# EAGLE library part 1365-68 (library EW_Connectors)
DUAL ROW STRAIGHT HEADER 1364 SERIES. 1.27mm x 1.27mm. Without Fixing Post. SMT Source: http://www.leotronics.co.uk/Conexcon/Data%20Sheets/sec.%20A/1364ing.pdf
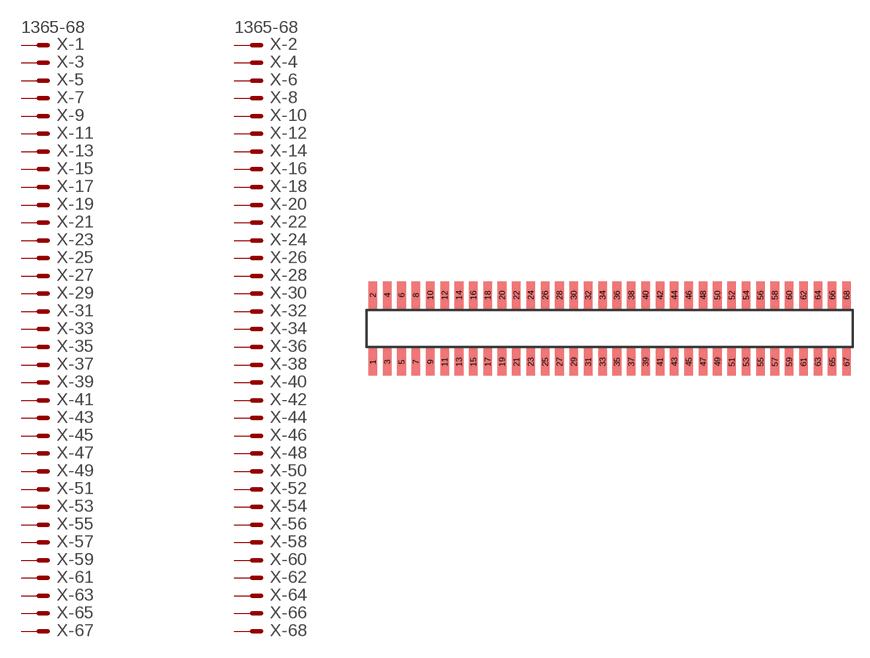
[diagram p97: symbol with the pads of 1365-68; footprint 1365-68]

Designator prefix X; gates -1=MVAL-14 -2=MVAL-14 -3=M-21 -4=M-21 -5=M-21 -6=M-21 -7=M-21 -8=M-21 -9=M-21 -10=M-21 -11=M-21 -12=M-21 -13=M-21 -14=M-21 -15=M-21 -16=M-21 -17=M-21 -18=M-21 -19=M-21 -20=M-21 -21=M-21 -22=M-21 -23=M-21 -24=M-21 -25=M-21 -26=M-21 -27=M-21 -28=M-21 -29=M-21 -30=M-21 -31=M-21 -32=M-21 -33=M-21 -34=M-21 -35=M-21 -36=M-21 -37=M-21 -38=M-21 -39=M-21 -40=M-21 -41=M-21 -42=M-21 -43=M-21 -44=M-21 -45=M-21 -46=M-21 -47=M-21 -48=M-21 -49=M-21 -50=M-21 -51=M-21 -52=M-21 -53=M-21 -54=M-21 -55=M-21 -56=M-21 -57=M-21 -58=M-21 -59=M-21 -60=M-21 -61=M-21 -62=M-21 -63=M-21 -64=M-21 -65=M-21 -66=M-21 -67=M-21 -68=M-21

## 1365-68 (OC_FARNELL: unknown; OC_NEWARK: unknown)  [1365-68]
1  -1:S  pas
2  -2:S  pas
3  -3:S  pas
4  -4:S  pas
5  -5:S  pas
6  -6:S  pas
7  -7:S  pas
8  -8:S  pas
9  -9:S  pas
10  -10:S  pas
11  -11:S  pas
12  -12:S  pas
13  -13:S  pas
14  -14:S  pas
15  -15:S  pas
16  -16:S  pas
17  -17:S  pas
18  -18:S  pas
19  -19:S  pas
20  -20:S  pas
21  -21:S  pas
22  -22:S  pas
23  -23:S  pas
24  -24:S  pas
25  -25:S  pas
26  -26:S  pas
27  -27:S  pas
28  -28:S  pas
29  -29:S  pas
30  -30:S  pas
31  -31:S  pas
32  -32:S  pas
33  -33:S  pas
34  -34:S  pas
35  -35:S  pas
36  -36:S  pas
37  -37:S  pas
38  -38:S  pas
39  -39:S  pas
40  -40:S  pas
41  -41:S  pas
42  -42:S  pas
43  -43:S  pas
44  -44:S  pas
45  -45:S  pas
46  -46:S  pas
47  -47:S  pas
48  -48:S  pas
49  -49:S  pas
50  -50:S  pas
51  -51:S  pas
52  -52:S  pas
53  -53:S  pas
54  -54:S  pas
55  -55:S  pas
56  -56:S  pas
57  -57:S  pas
58  -58:S  pas
59  -59:S  pas
60  -60:S  pas
61  -61:S  pas
62  -62:S  pas
63  -63:S  pas
64  -64:S  pas
65  -65:S  pas
66  -66:S  pas
67  -67:S  pas
68  -68:S  pas

## Footprint 1365-68 (pad centres in mm)
DUAL ROW STRAIGHT HEADER 1364 SERIES. 1.27mm x 1.27mm. Without Fixing Post. SMT Source: http://www.leotronics.co.uk/Conexcon/Data%20Sheets/sec.%20A/1364ing.pdf
smd 0.76 x 2.4: 1 -20.955,-2.95; 2 -20.955,2.95; 3 -19.685,-2.95; 4 -19.685,2.95; 5 -18.415,-2.95; 6 -18.415,2.95; 7 -17.145,-2.95; 8 -17.145,2.95; 9 -15.875,-2.95; 10 -15.875,2.95; 11 -14.605,-2.95; 12 -14.605,2.95; 13 -13.335,-2.95; 14 -13.335,2.95; 15 -12.065,-2.95; 16 -12.065,2.95; 17 -10.795,-2.95; 18 -10.795,2.95; 19 -9.525,-2.95; 20 -9.525,2.95; 21 -8.255,-2.95; 22 -8.255,2.95; 23 -6.985,-2.95; 24 -6.985,2.95; 25 -5.715,-2.95; 26 -5.715,2.95; 27 -4.445,-2.95; 28 -4.445,2.95; 29 -3.175,-2.95; 30 -3.175,2.95; 31 -1.905,-2.95; 32 -1.905,2.95; 33 -0.635,-2.95; 34 -0.635,2.95; 35 0.635,-2.95; 36 0.635,2.95; 37 1.905,-2.95; 38 1.905,2.95; 39 3.175,-2.95; 40 3.175,2.95; 41 4.445,-2.95; 42 4.445,2.95; 43 5.715,-2.95; 44 5.715,2.95; 45 6.985,-2.95; 46 6.985,2.95; 47 8.255,-2.95; 48 8.255,2.95; 49 9.525,-2.95; 50 9.525,2.95; 51 10.795,-2.95; 52 10.795,2.95; 53 12.065,-2.95; 54 12.065,2.95; 55 13.335,-2.95; 56 13.335,2.95; 57 14.605,-2.95; 58 14.605,2.95; 59 15.875,-2.95; 60 15.875,2.95; 61 17.145,-2.95; 62 17.145,2.95; 63 18.415,-2.95; 64 18.415,2.95; 65 19.685,-2.95; 66 19.685,2.95; 67 20.955,-2.95; 68 20.955,2.95